# Altium footprint library Zavrsni.PcbLib: 1 footprints
Each footprint in its own frame and in the unit in brackets; x right, y up, seen from the top. Pads: shape width x height; smd on the part's side, far side on the other; paste and mask are expansions set on the pad; w line width, h text height; cw(c..) or ccw(c..) is an arc to the next point about the centre after c.
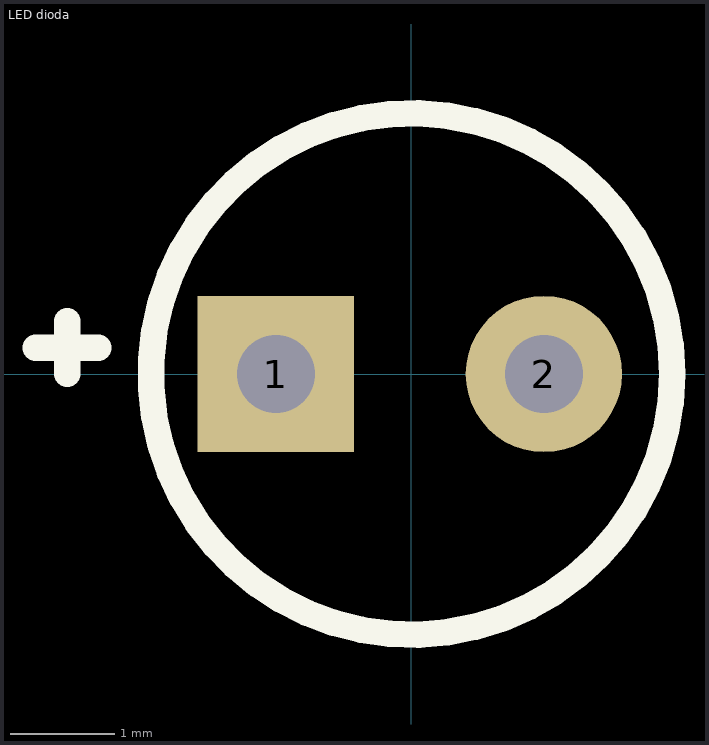
[diagram p0: the footprint, top view; thin cyan lines are the x and y axes]

## LED dioda [mm]
pads (2):
  rect 1.5x1.5 hole 0.75: 1(-1.3,0)
  round 1.5 hole 0.75: 2(1.27,0)
Top Overlay:
  circle w0.254: c0,0 r2.5
  lines w0.254: -3.602,0.254 -3.002,0.254 ; -3.302,0.004 -3.302,0.504